# Altium footprint library sucaiku_pcblib.PcbLib: 27 footprints (part 1 of 2)
Each footprint in its own frame and in the unit in brackets; x right, y up, seen from the top. Pads: shape width x height; smd on the part's side, far side on the other; paste and mask are expansions set on the pad; w line width, h text height; cw(c..) or ccw(c..) is an arc to the next point about the centre after c.
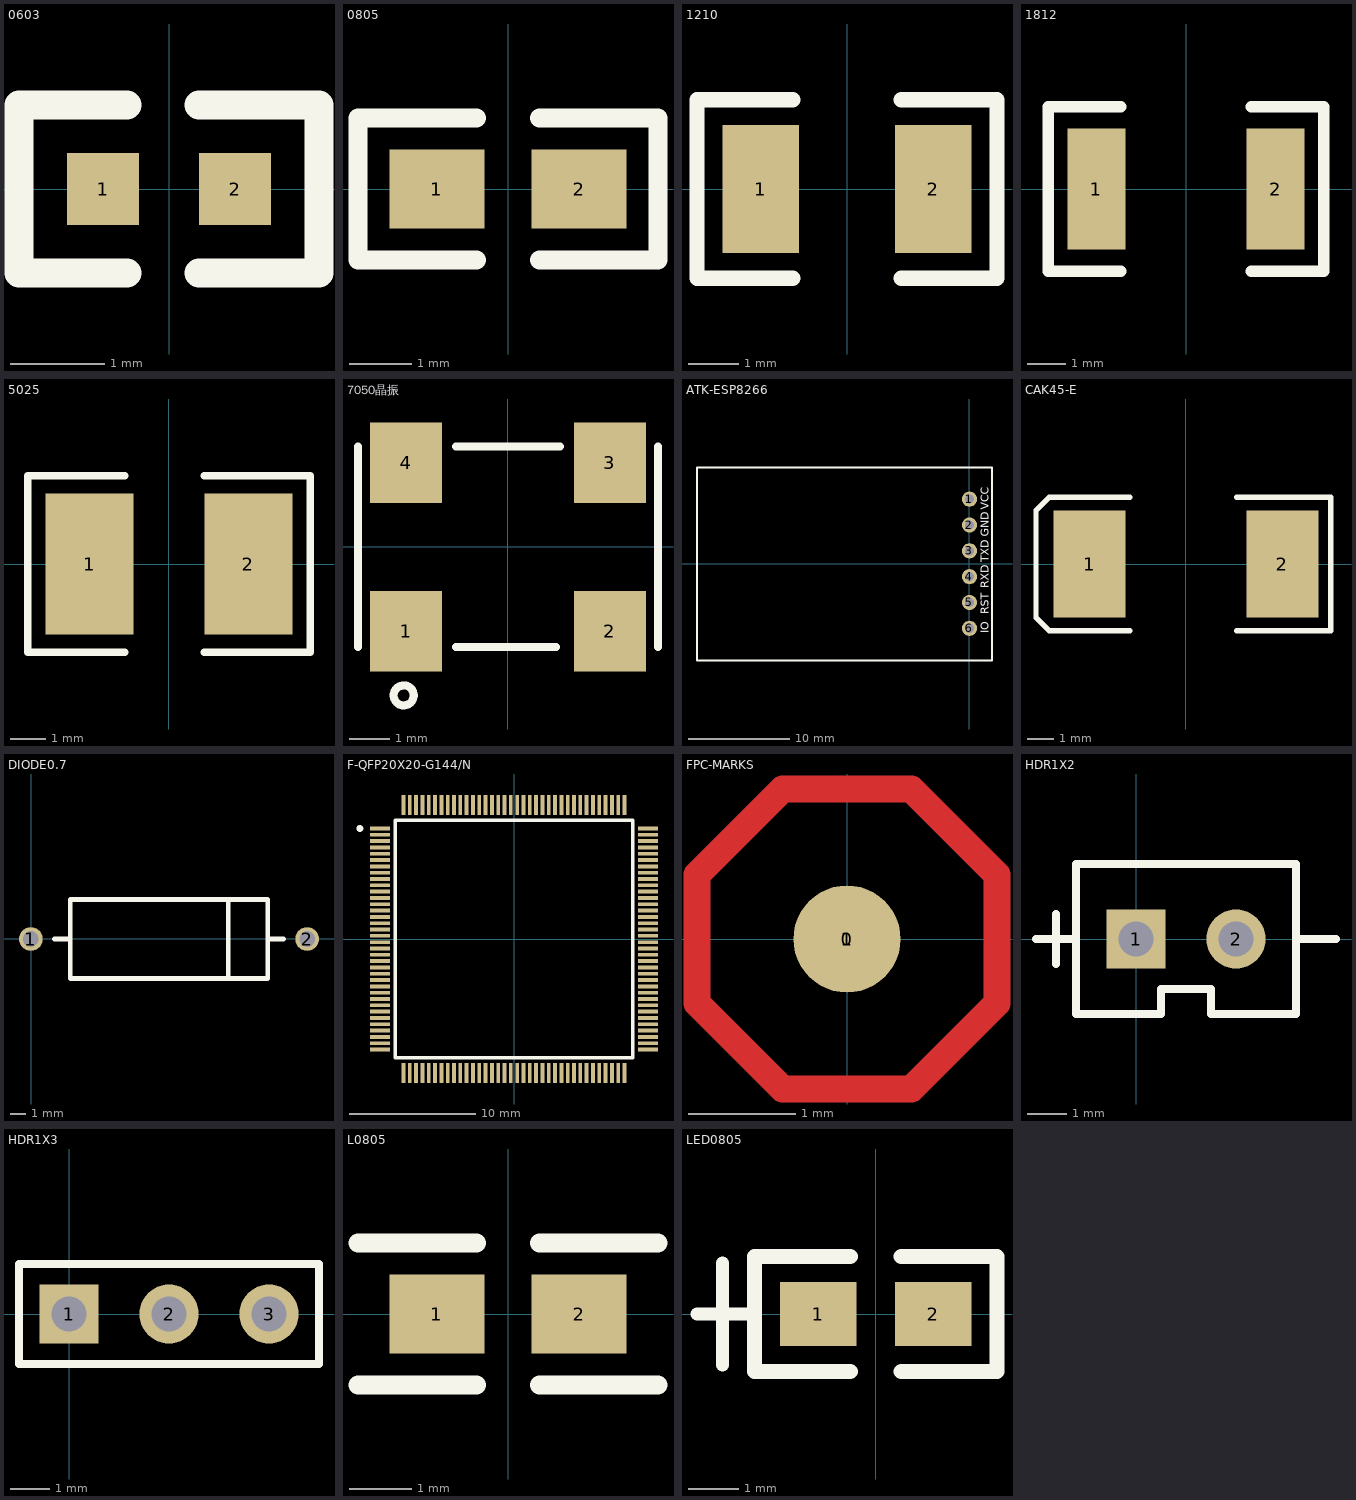
[diagram p0: the footprints below, top view; thin cyan lines are the x and y axes]

## 0603 [mil]
pads (2):
  rect 30x30 smd: 1(-27.5,0) 2(27.5,0)
TopOverlay:
  lines w12: -17.5,-35 -62.5,-35 -62.5,35 -17.5,35 ; 12.5,-35 62.5,-35 62.5,35 12.5,35

## 0805 [mil]
pads (2):
  rect 60x50 smd: 1(-45,0) 2(45,0)
TopOverlay:
  lines w12: -20,-45 -95,-45 -95,45 -20,45 ; 20,-45 95,-45 95,45 20,45

## 1210 [mil]
pads (2):
  rect 60x100 smd: 1(-67.5,0) 2(67.5,0)
TopOverlay:
  lines w12: -42.5,-70 -117.5,-70 -117.5,70 -42.5,70 ; 42.5,-70 117.5,-70 117.5,70 42.5,70

## 1812 [mil]
pads (2):
  rect 60x125 smd: 1(-92.5,0) 2(92.5,0)
TopOverlay:
  lines w12: -67.5,-85 -142.5,-85 -142.5,85 -67.5,85 ; 67.5,-85 142.5,-85 142.5,85 67.5,85

## 5025 [mm]
pads (2):
  rect 2.5x4 smd: 1(-2.25,0) 2(2.25,0)
TopOverlay:
  lines w0.203: -1.25,-2.5 -4,-2.5 -4,2.5 -1.25,2.5 ; 1,-2.5 4,-2.5 4,2.5 1,2.5

## 7050晶振 [mm]
pads (4):
  rect 1.8x2 smd: 1(-2.54,-2.1) 2(2.54,-2.1) 3(2.54,2.1) 4(-2.54,2.1)
TopOverlay:
  circle w0.2: c-2.6,-3.7 r0.25
  lines w0.2: -3.74,-2.5 -3.74,2.5 ; -1.3,-2.5 1.2,-2.5 ; -1.3,2.5 1.3,2.5 ; 3.74,-2.5 3.74,2.5

## ATK-ESP8266 [mm]
pads (6):
  round 1.5 hole 0.9: 1(0,6.35) 2(0,3.81) 3(0,1.27) 4(0,-1.27) 5(0,-3.81) 6(0,-6.35)
TopOverlay:
  lines w0.2: -26.797,-9.525 -26.797,9.475 2.203,9.475 2.203,-9.525 -26.797,-9.525
  text "IO" at 1.905,-6.858 h0.8
  text "RST" at 1.905,-4.953 h0.8
  text "RXD" at 1.905,-2.413 h0.8
  text "TXD" at 1.905,0.127 h0.8
  text "GND" at 1.905,2.667 h0.8
  text "VCC" at 1.905,5.334 h0.8

## CAK45-E [mm]
pads (2):
  rect 2.7x4 smd: 1(-3.6,0) 2(3.6,0)
TopOverlay:
  lines w0.203: -2.1,-2.5 -5.1,-2.5 -5.6,-2 -5.6,2 -5.1,2.5 -2.1,2.5 ; 1.9,-2.5 5.4,-2.5 5.4,2.5 1.9,2.5

## CON54P_2MM [mm]

## DIODE0.7 [mil]
pads (2):
  round 60 hole 40: 1(-0.46,-0.45) 2(699.54,-0.45)
TopOverlay:
  lines w12: 59.54,-0.45 99.54,-0.45 ; 499.54,-100.44 499.54,99.56 ; 599.54,-0.45 639.54,-0.45 ; 99.54,-100.44 599.54,-100.44 599.54,99.56 99.54,99.56 99.54,-100.44

## F-QFP20X20-G144/N [mm]
pads (144):
  rect 1.6x0.3 smd: 1(-10.6,8.75) 2(-10.6,8.25) 3(-10.6,7.75) 4(-10.6,7.25) 5(-10.6,6.75) 6(-10.6,6.25) 7(-10.6,5.75) 8(-10.6,5.25) 9(-10.6,4.75) 10(-10.6,4.25) 11(-10.6,3.75) 12(-10.6,3.25) 13(-10.6,2.75) 14(-10.6,2.25) 15(-10.6,1.75) 16(-10.6,1.25) 17(-10.6,0.75) 18(-10.6,0.25) 19(-10.6,-0.25) 20(-10.6,-0.75) 21(-10.6,-1.25) 22(-10.6,-1.75) 23(-10.6,-2.25) 24(-10.6,-2.75) 25(-10.6,-3.25) 26(-10.6,-3.75) 27(-10.6,-4.25) 28(-10.6,-4.75) 29(-10.6,-5.25) 30(-10.6,-5.75) 31(-10.6,-6.25) 32(-10.6,-6.75) 33(-10.6,-7.25) 34(-10.6,-7.75) 35(-10.6,-8.25) 36(-10.6,-8.75) 73(10.6,-8.75) 74(10.6,-8.25) 75(10.6,-7.75) 76(10.6,-7.25) 77(10.6,-6.75) 78(10.6,-6.25) 79(10.6,-5.75) 80(10.6,-5.25) 81(10.6,-4.75) 82(10.6,-4.25) 83(10.6,-3.75) 84(10.6,-3.25) 85(10.6,-2.75) 86(10.6,-2.25) 87(10.6,-1.75) 88(10.6,-1.25) 89(10.6,-0.75) 90(10.6,-0.25) 91(10.6,0.25) 92(10.6,0.75) 93(10.6,1.25) 94(10.6,1.75) 95(10.6,2.25) 96(10.6,2.75) 97(10.6,3.25) 98(10.6,3.75) 99(10.6,4.25) 100(10.6,4.75) 101(10.6,5.25) 102(10.6,5.75) 103(10.6,6.25) 104(10.6,6.75) 105(10.6,7.25) 106(10.6,7.75) 107(10.6,8.25) 108(10.6,8.75)
  rect 0.3x1.6 smd: 37(-8.75,-10.6) 38(-8.25,-10.6) 39(-7.75,-10.6) 40(-7.25,-10.6) 41(-6.75,-10.6) 42(-6.25,-10.6) 43(-5.75,-10.6) 44(-5.25,-10.6) 45(-4.75,-10.6) 46(-4.25,-10.6) 47(-3.75,-10.6) 48(-3.25,-10.6) 49(-2.75,-10.6) 50(-2.25,-10.6) 51(-1.75,-10.6) 52(-1.25,-10.6) 53(-0.75,-10.6) 54(-0.25,-10.6) 55(0.25,-10.6) 56(0.75,-10.6) 57(1.25,-10.6) 58(1.75,-10.6) 59(2.25,-10.6) 60(2.75,-10.6) 61(3.25,-10.6) 62(3.75,-10.6) 63(4.25,-10.6) 64(4.75,-10.6) 65(5.25,-10.6) 66(5.75,-10.6) 67(6.25,-10.6) 68(6.75,-10.6) 69(7.25,-10.6) 70(7.75,-10.6) 71(8.25,-10.6) 72(8.75,-10.6) 109(8.75,10.6) 110(8.25,10.6) 111(7.75,10.6) 112(7.25,10.6) 113(6.75,10.6) 114(6.25,10.6) 115(5.75,10.6) 116(5.25,10.6) 117(4.75,10.6) 118(4.25,10.6) 119(3.75,10.6) 120(3.25,10.6) 121(2.75,10.6) 122(2.25,10.6) 123(1.75,10.6) 124(1.25,10.6) 125(0.75,10.6) 126(0.25,10.6) 127(-0.25,10.6) 128(-0.75,10.6) 129(-1.25,10.6) 130(-1.75,10.6) 131(-2.25,10.6) 132(-2.75,10.6) 133(-3.25,10.6) 134(-3.75,10.6) 135(-4.25,10.6) 136(-4.75,10.6) 137(-5.25,10.6) 138(-5.75,10.6) 139(-6.25,10.6) 140(-6.75,10.6) 141(-7.25,10.6) 142(-7.75,10.6) 143(-8.25,10.6) 144(-8.75,10.6)
TopOverlay:
  circle w0.25: c-12.2,8.75 r0.15
  lines w0.25: -9.4,-9.4 9.4,-9.4 9.4,9.4 -9.4,9.4 -9.4,-9.4

## FPC-MARKS [mm]
pads (2):
  round 2 on Top Solder: 0(0,0)
  round 1 smd: 1(0,0)
TopLayer:
  lines w0.254: -1.4,-0.6 -1.4,0.6 -0.6,1.4 -0.4,1.4 0.4,1.4 0.6,1.4 1.4,0.6 1.4,-0.6 0.6,-1.4 -0.6,-1.4 -1.4,-0.6

## HDR1X2 [mm] "Connector; Header; 2 Position"
pads (2):
  rect 1.5x1.5 hole 0.9: 1(0,0)
  round 1.5 hole 0.9: 2(2.54,0)
TopOverlay:
  lines w0.2: -2.54,0 -1.524,0 ; -2.032,-0.635 -2.032,0.635 ; 4.064,0 5.08,0 ; -1.524,-1.905 0.635,-1.905 0.635,-1.27 1.905,-1.27 1.905,-1.905 4.064,-1.905 4.064,1.905 -1.524,1.905 -1.524,-1.905

## HDR1X3 [mm] "Connector; Header; 3 Position"
pads (3):
  rect 1.5x1.5 hole 0.9: 1(0,0)
  round 1.5 hole 0.9: 2(2.54,0) 3(5.08,0)
TopOverlay:
  lines w0.2: -1.27,-1.27 -1.27,1.27 6.35,1.27 6.35,-1.27 -1.27,-1.27

## L0805 [mil]
pads (2):
  rect 60x50 smd: 1(-45,0) 2(45,0)
TopOverlay:
  lines w12: -95,-45 -20,-45 ; -95,45 -20,45 ; 20,-45 95,-45 ; 20,45 95,45
3D body "INDC2012(0805).STEP": height 36, standoff -1.4, extent -39.37,-23.62 39.37,23.62

## LED0805 [mil]
pads (2):
  rect 60x50 smd: 1(-45,0) 2(45,0)
TopOverlay:
  lines w10: -140,0 -95,0 ; -120,-40 -120,40
  lines w12: -20,-45 -95,-45 -95,45 -20,45 ; 20,-45 95,-45 95,45 20,45